# Altium footprint library Trofazni_invertor_PcbLib.PcbLib: 18 footprints (part 1 of 2)
Each footprint in its own frame and in the unit in brackets; x right, y up, seen from the top. Pads: shape width x height; smd on the part's side, far side on the other; paste and mask are expansions set on the pad; w line width, h text height; cw(c..) or ccw(c..) is an arc to the next point about the centre after c.
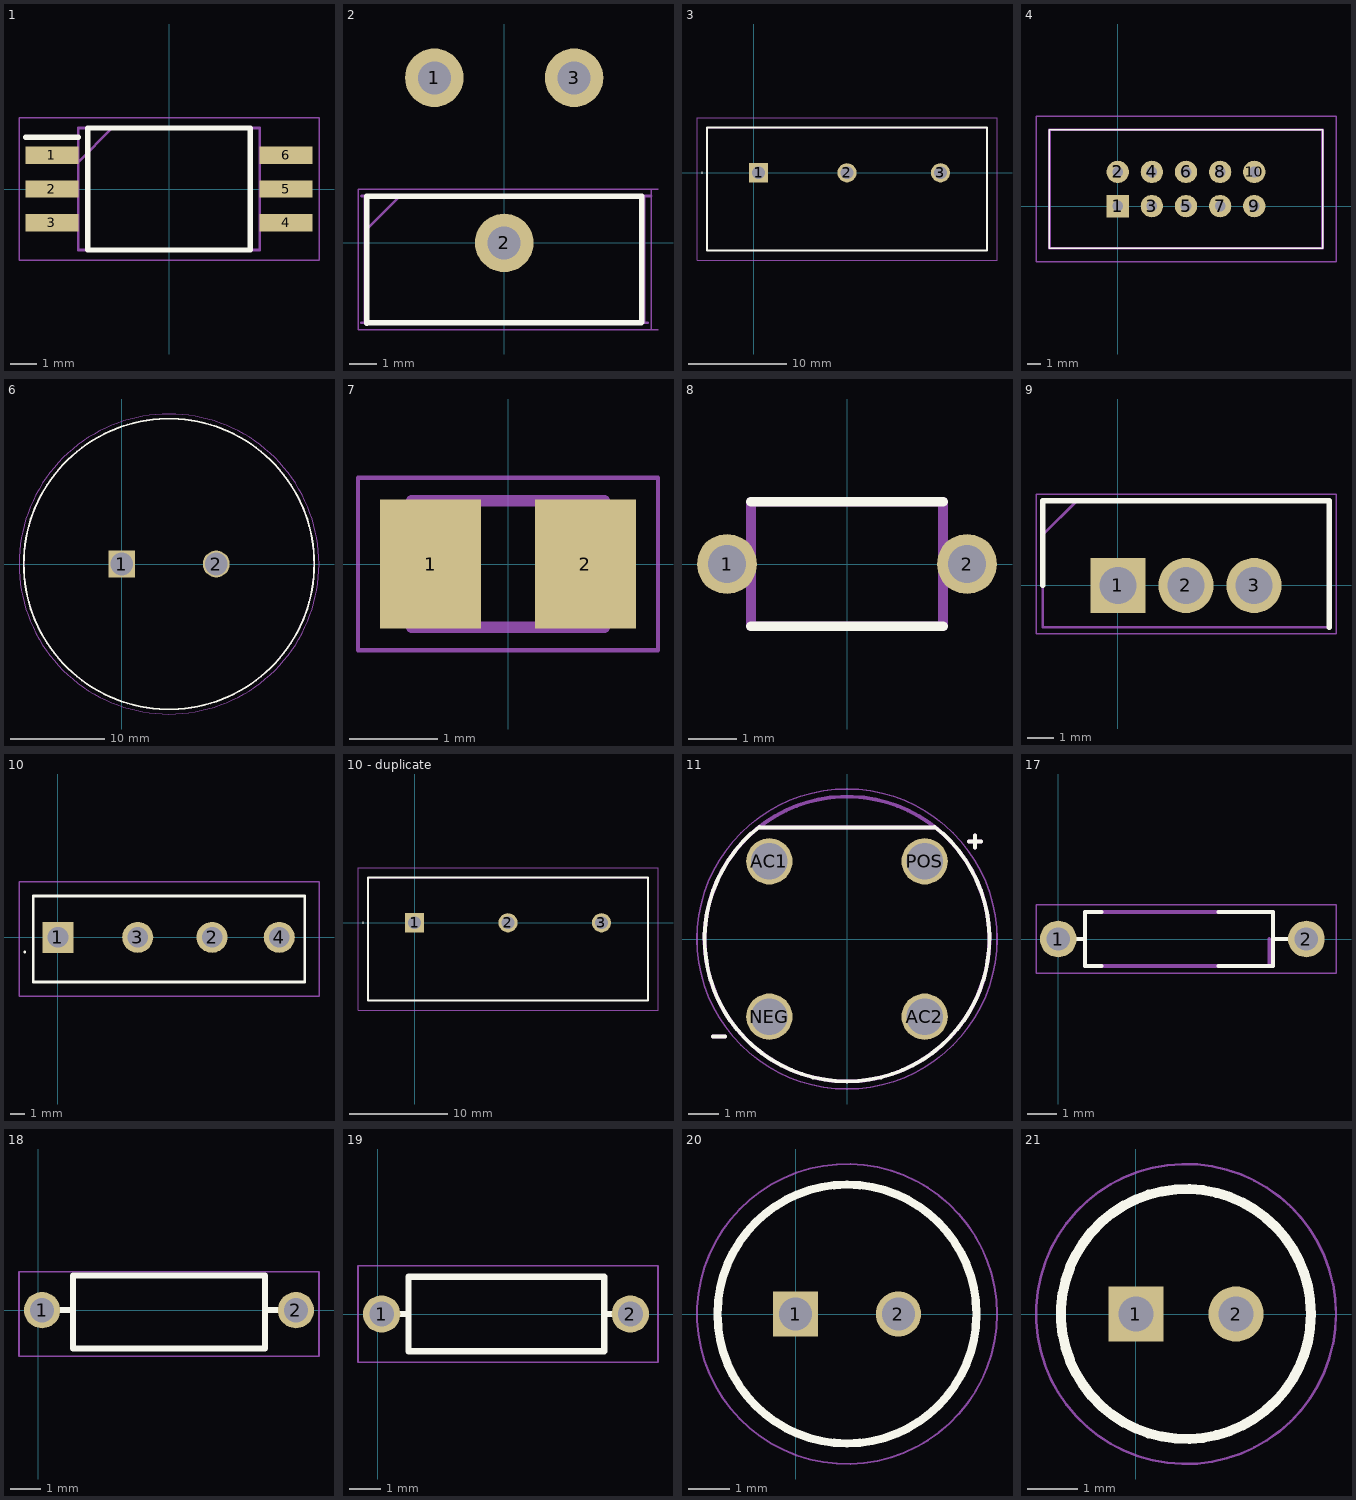
[diagram p0: the footprints below, top view; thin cyan lines are the x and y axes]

## 1 [mm]
pads (6):
  rect 1.975x0.65 smd: 1(-4.388,1.27) 2(-4.388,0) 3(-4.388,-1.27) 4(4.388,-1.27) 5(4.388,0) 6(4.388,1.27)
Top Overlay:
  lines w0.2: -5.375,1.945 -3.4,1.945 ; -3.05,-2.29 3.05,-2.29 3.05,2.29 -3.05,2.29 -3.05,-2.29
Mechanical 13:
  lines w0.1: -3.4,1.02 -2.13,2.29 ; -3.4,-2.29 3.4,-2.29 3.4,2.29 -3.4,2.29 -3.4,-2.29
Mechanical 15:
  lines w0.05: -5.625,-2.665 5.625,-2.665 5.625,2.665 -5.625,2.665 -5.625,-2.665
3D body "TLP701_TP_.stp": height 4.25, standoff 0, extent -4.85,-2.29 4.85,2.29

## 2 [mm]
pads (3):
  round 2.13 hole 1.2: 1(-2.54,6) 2(0,0) 3(2.54,6)
Top Overlay:
  lines w0.2: -5,-2.921 -5,1.703 ; -4.953,-2.897 4.977,-2.897 5,-2.874 5,1.703 -4.953,1.703
Mechanical 13:
  lines w0.1: -5.19,-2.897 5.207,-2.897 ; -5.19,1.703 5.334,1.703 ; -5.063,-2.897 -5.063,1.703 ; -5.063,0.428 -3.788,1.703 ; 5.083,-2.897 5.083,1.703
Mechanical 15:
  lines w0.05: 5.333,-3.147 5.333,1.953 ; 5.587,-3.147 -5.313,-3.147 -5.313,1.953 5.587,1.953
3D body "STP7NK40ZFP.stp": height 19.4, standoff -18.3, extent -5.09,-2.897 5.11,1.703

## 3 [mm]
pads (3):
  rect 1.95x1.95 hole 1.3: 1(0.508,0)
  round 1.95 hole 1.3: 2(9.52,0) 3(19.04,0)
Top Overlay:
  lines w0.1: -5.3,0 cw(c-5.25,0) -5.2,0 cw(c-5.25,0) -5.3,0
  lines w0.2: -4.76,-7.9 23.8,-7.9 23.8,4.6 -4.76,4.6 -4.76,-7.9
Mechanical 13:
  lines w0.1: -4.76,-7.9 23.8,-7.9 23.8,4.6 -4.76,4.6 -4.76,-7.9
Mechanical 15:
  lines w0.1: -5.76,-8.9 24.8,-8.9 24.8,5.6 -5.76,5.6 -5.76,-8.9
3D body "1714984.stp": height 22, standoff -4.5, extent -5.46,-7.9 23.67,4.6

## 4 [mm]
pads (10):
  rect 1.665x1.665 hole 0.8: 1(0,0)
  round 1.665 hole 0.8: 2(0,2.54) 3(2.54,0) 4(2.54,2.54) 5(5.08,0) 6(5.08,2.54) 7(7.62,0) 8(7.62,2.54) 9(10.16,0) 10(10.16,2.54)
Top Overlay:
  lines w0.1: -5.08,-3.13 15.24,-3.13 15.24,5.67 -5.08,5.67 -5.08,-3.13
Mechanical 13:
  lines w0.2: -5.08,-3.13 15.24,-3.13 15.24,5.67 -5.08,5.67 -5.08,-3.13
Mechanical 15:
  lines w0.1: -6.08,-4.13 16.24,-4.13 16.24,6.67 -6.08,6.67 -6.08,-4.13
3D body "SBH11-PBPC-D05-ST-BK.stp": height 8.9, standoff -5, extent -5.08,-3.13 15.24,5.67

## 6 [mm]
pads (2):
  rect 2.85x2.85 hole 2.4: 1(0,0)
  round 2.85 hole 2.4: 2(10,0)
Top Overlay:
  circle w0.2: c5,0 r15.375
Mechanical 13:
  circle w0.1: c5,0 r15.375
Mechanical 15:
  circle w0.05: c5,0 r15.875
3D body "LLG2G471MELB35.stp": height 37, standoff -10, extent -10.75,-15.75 20.75,15.75

## 7 [mm]
pads (2):
  rect 1.15x1.47 smd: 1(-0.88,0) 2(0.88,0)
Mechanical 13:
  lines w0.127: -1.1,-0.72 -1.1,0.72 1.1,0.72 1.1,-0.72 -1.1,-0.72
Mechanical 15:
  lines w0.05: -1.708,-0.983 -1.708,0.983 1.708,0.983 1.708,-0.983 -1.708,-0.983
3D body "step_temp.STEP": height 1.5, standoff 0, extent -1,-0.625 1,0.625

## 8 [mm]
pads (2):
  round 1.25 hole 0.8: 1(-2.5,0) 2(2.5,0)
Top Overlay:
  lines w0.2: -2,-1.3 2,-1.3 ; -2,1.3 2,1.3
Mechanical 13:
  lines w0.2: -2,-1.3 2,-1.3 2,1.3 -2,1.3 -2,-1.3
3D body "K104Z15Y5VF5TL2.stp": height 6.52, standoff -30.08, extent -2.7,-1.299 2.7,1.299

## 9 [mm]
pads (3):
  rect 2.055x2.055 hole 1.37: 1(0,0)
  round 2.055 hole 1.37: 2(2.535,0) 3(5.07,0)
Top Overlay:
  lines w0.2: -2.8,0 -2.8,3.15 7.87,3.15 7.87,-1.55
Mechanical 13:
  lines w0.1: -2.8,1.882 -1.532,3.15 ; -2.8,-1.55 -2.8,3.15 7.87,3.15 7.87,-1.55 -2.8,-1.55
Mechanical 15:
  lines w0.05: -3.05,-1.8 -3.05,3.4 8.12,3.4 8.12,-1.8 -3.05,-1.8
3D body "LM7818CT.stp": height 18.54, standoff -17.53, extent -2.545,-1.55 7.615,3.15

## 10 [mm]
pads (4):
  rect 2.175x2.175 hole 1.45: 1(0,0)
  round 2.175 hole 1.45: 2(10.795,0) 3(5.588,0) 4(15.494,0)
Top Overlay:
  lines w0.1: -2.373,-1.016 cw(c-2.323,-1.016) -2.273,-1.016 cw(c-2.323,-1.016) -2.373,-1.016
  lines w0.2: -1.723,-3.116 17.277,-3.116 17.277,2.884 -1.723,2.884 -1.723,-3.116
Mechanical 13:
  lines w0.1: -1.723,-3.116 17.277,-3.116 17.277,2.884 -1.723,2.884 -1.723,-3.116
Mechanical 15:
  lines w0.1: -2.723,-4.116 18.277,-4.116 18.277,3.884 -2.723,3.884 -2.723,-4.116

## 10 - duplicate [mm]
pads (3):
  rect 1.95x1.95 hole 1.3: 1(0,0)
  round 1.95 hole 1.3: 2(9.52,0) 3(19.04,0)
Top Overlay:
  lines w0.1: -5.3,0 cw(c-5.25,0) -5.2,0 cw(c-5.25,0) -5.3,0
  lines w0.2: -4.76,-7.9 23.8,-7.9 23.8,4.6 -4.76,4.6 -4.76,-7.9
Mechanical 13:
  lines w0.1: -4.76,-7.9 23.8,-7.9 23.8,4.6 -4.76,4.6 -4.76,-7.9
Mechanical 15:
  lines w0.1: -5.76,-8.9 24.8,-8.9 24.8,5.6 -5.76,5.6 -5.76,-8.9
3D body "1714984.stp": height 22, standoff -4.5, extent -5.46,-7.9 23.67,4.6

## 11 [mm]
height 5.6
pads (4):
  round 1.518 hole 1.2: AC1(-2.55,2.55) AC2(2.55,-2.55) NEG(-2.55,-2.55) POS(2.55,2.55)
Top Overlay:
  lines w0.127: -4.4,-3.2 -4,-3.2 ; -2.878,3.684 ccw(c0,0) 2.878,3.684 ; -2.875,3.655 2.875,3.655 ; 4,3.2 4.4,3.2 ; 4.2,3 4.2,3.4
Mechanical 13:
  circle w0.127: c0,0 r4.675
  lines w0.127: -4.4,-3.2 -4,-3.2 ; -2.875,3.655 2.875,3.655 ; 4,3.2 4.4,3.2 ; 4.2,3 4.2,3.4
Mechanical 15:
  circle w0.05: c0,0 r4.925

## 17 [mm]
height 3.85
pads (2):
  round 1.258 hole 0.8: 1(0,0) 2(8.509,0)
Top Overlay:
  lines w0.127: 0.117,0 0.917,0 ; 1.497,-0.925 0.917,-0.925 0.917,0 ; 1.497,0.925 0.917,0.925 0.917,0 ; 5.488,-0.925 7.366,-0.925 7.366,0 ; 5.488,0.925 7.366,0.925 7.366,0 ; 8.509,0 7.366,0
Mechanical 13:
  lines w0.127: -0.258,0 0.917,0 ; 5.588,-0.925 0.917,-0.925 0.917,0 ; 5.715,0.925 0.917,0.925 0.917,0 ; 7.239,-0.925 7.239,0 ; 7.366,0 7.366,0.925
Mechanical 15:
  lines w0.05: -0.762,-1.175 0.667,-1.175 4.667,-1.175 9.525,-1.175 9.525,1.175 4.667,1.175 0.667,1.175 -0.762,1.175 -0.762,-1.175

## 18 [mm]
pads (2):
  round 1.2 hole 0.8: 1(0.127,0) 2(8.509,0)
Top Overlay:
  lines w0.2: 0,0 1.143,0 ; 7.62,0 8.509,0 ; 1.143,-1.27 1.143,1.143 7.493,1.143 7.493,-1.27 1.143,-1.27
Mechanical 13:
  lines w0.1: 0,0 1.139,0 ; 1.143,-1.27 1.143,1.143 7.493,1.143 7.493,-1.27 1.143,-1.27 ; 8.509,0 8.509,0
Mechanical 15:
  lines w0.05: -0.635,-1.524 -0.635,1.27 9.271,1.27 9.271,-1.524 -0.635,-1.524

## 19 [mm]
pads (2):
  round 1.2 hole 0.8: 1(0.127,0) 2(8.128,0)
Top Overlay:
  lines w0.2: 0.061,0 0.889,0 ; 7.29,0 8.255,0 ; 0.99,-1.2 7.29,-1.2 7.29,1.2 0.99,1.2 0.99,-1.2
Mechanical 13:
  lines w0.1: 0,0 0.99,0 ; 7.29,0 8.255,0 ; 0.99,-1.2 7.29,-1.2 7.29,1.2 0.99,1.2 0.99,-1.2
Mechanical 15:
  lines w0.05: -0.635,-1.55 9.017,-1.55 9.017,1.55 -0.635,1.55 -0.635,-1.55

## 20 [mm]
pads (2):
  rect 1.1x1.1 hole 0.8: 1(0,0)
  round 1.1 hole 0.8: 2(2.5,0)
Top Overlay:
  circle w0.2: c1.25,0 r3.15
Mechanical 13:
  circle w0.1: c1.25,0 r3.15
Mechanical 15:
  circle w0.05: c1.25,0 r3.65
3D body "ESK107M035AE3AA.stp": height 12.5, standoff -20, extent -2.15,-3.4 4.65,3.4

## 21 [mm]
pads (2):
  rect 1.1x1.1 hole 0.7: 1(0,0)
  round 1.1 hole 0.7: 2(2,0)
Top Overlay:
  circle w0.2: c1,0 r2.5
Mechanical 13:
  circle w0.1: c1,0 r2.5
Mechanical 15:
  circle w0.05: c1,0 r3
3D body "ESH336M035AC3AA.stp": height 12.48, standoff -20.02, extent -1.75,-2.75 3.75,2.75